# Altium schematic symbol library ALCT_MEZ_SPARTAN6_Library.SchLib: 214 symbols (part 3 of 7)
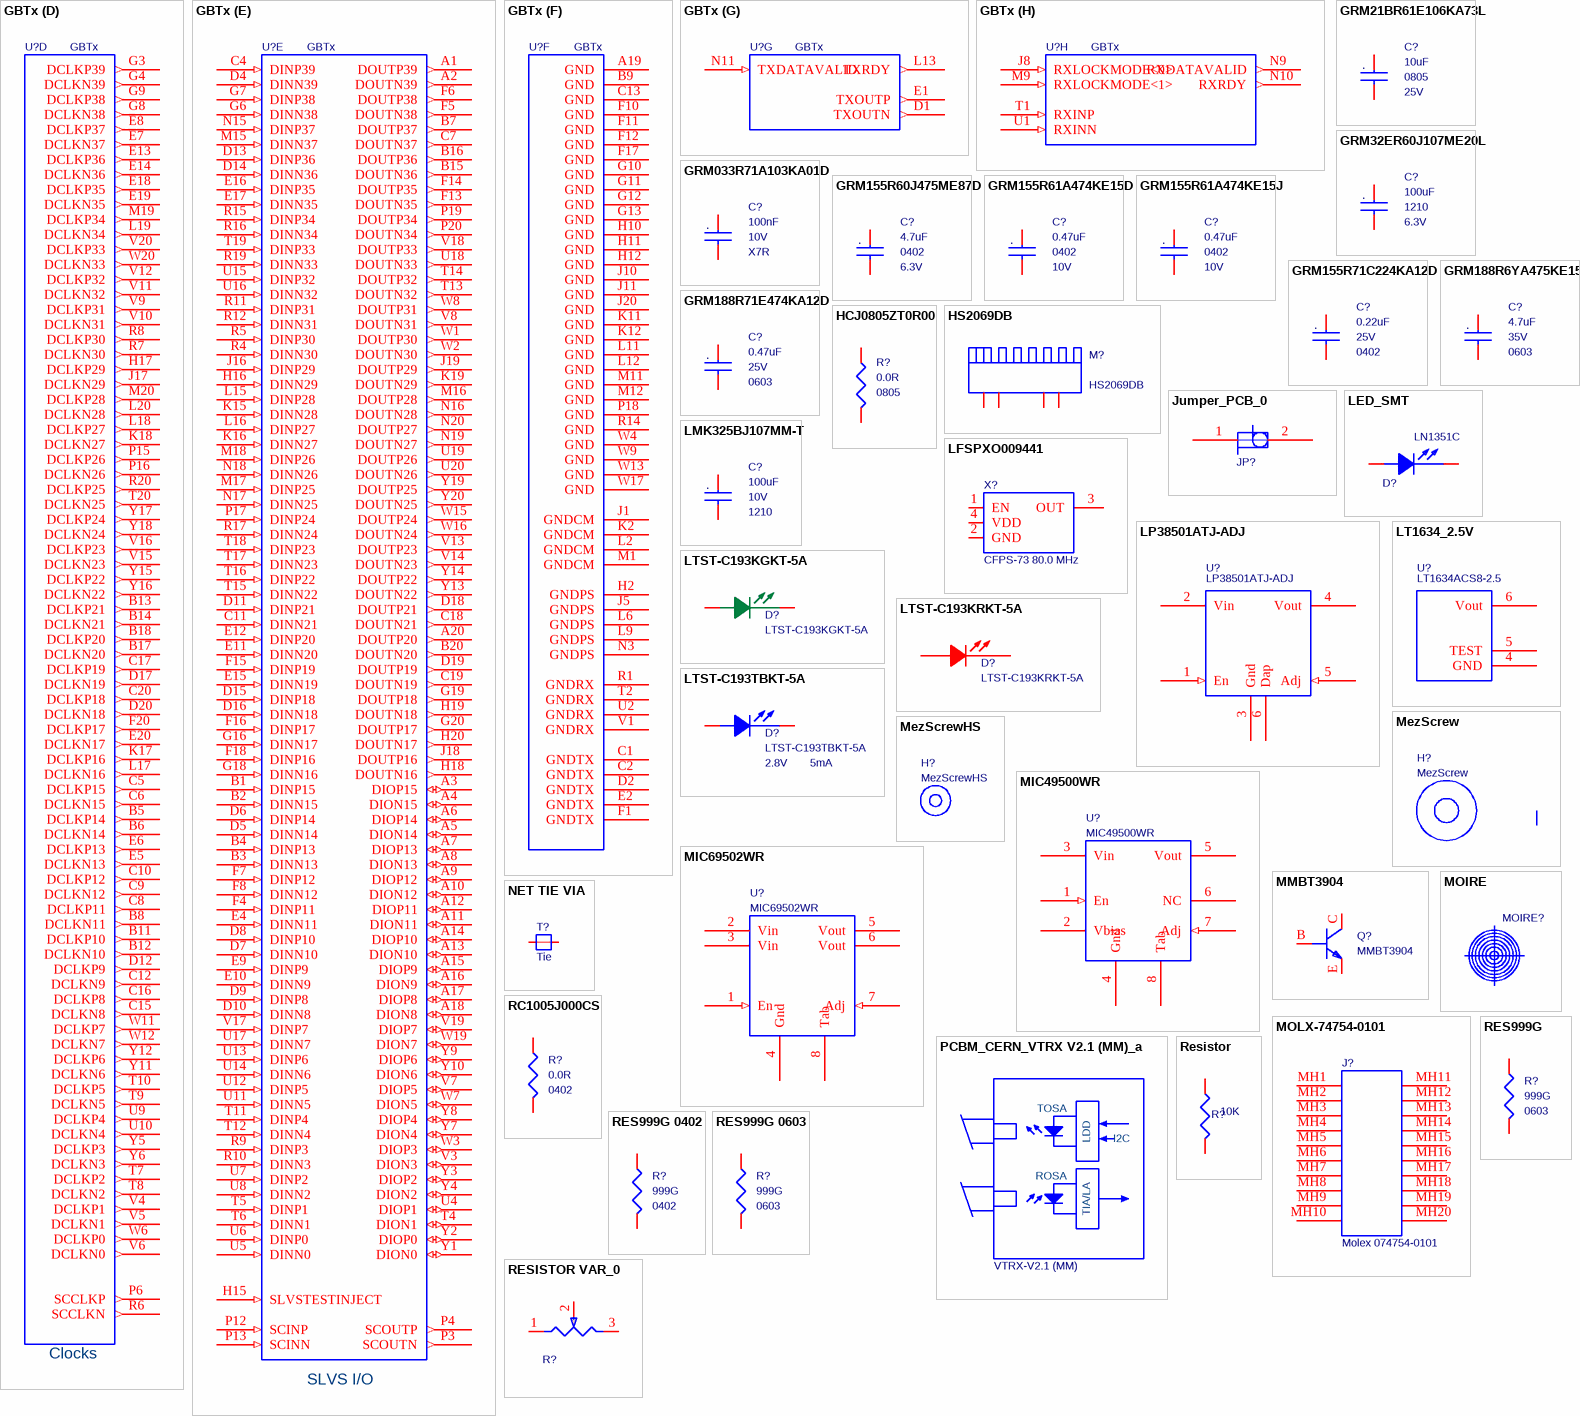
[diagram p22: symbols GBTx to RESISTOR VAR_0]

## GBTx
designator U?
footprint BGA400 GBT (BGA, 400-Leads, Body 17.00x17.00mmx2.97mm, Pitch 0.80mm)
part A pins: G5 SCL (in) "I2C slave clock", G17 UNUSED "n.a.", H5 SDA (io) "I2C slave data line", H8 LDSDA (io) "Laser Driver I2C data", H9 STATEOVERRIDE (in) "Disables the automatic power-up state machine", J7 LDRESET (out) "Laser driver reset", K7 CONFIGSELECT (in) "Selects I2C or SC-IC channel for ASIC configuration", K8 LDSCL (out) "Laser driver I2C clock", K10 TESTOUTPUT (out) "test output", L7 MODE<1> (in) "Transceiver mode select signal", L8 I2CADDRESS<0> (in) "I2C address", L10 MODE<2> (in) "Transceiver mode select signal", M8 TRESETB (in) "JTAG", M10 RESETB (in) "Chip reset", N5 MODE<0> (in) "Transceiver mode select signal", N6 I2CADDRESS<1> (in) "I2C address", N7 I2CADDRESS<2> (in) "I2C address", N8 TCK (in) "JTAG", P5 I2CADDRESS<3> (in) "I2C address", P7 TDI (in) "JTAG", P8 TMS (in) "JTAG", P9 TDO (out) "JTAG", P10 MODE<3> (in) "Transceiver mode select signal", P11 EFUSEPROGRAMPULSE (in) "E-Fuse write pulse", P14 EFUSEPOWER (power) "E-Fuse power: 3.3V during programing, 1.5V otherwise"
part B pins: G1 CLOCKDES0P (out) "Output clocks with programmable phase and frequency", H1 CLOCKDES0N (out) "Output clocks with programmable phase and frequency", H4 CLOCKDES1P (out) "Output clocks with programmable phase and frequency", H6 TESTCLOCKOUT (out) "test clock output", H7 TESTCLOCKIN1 (in) "test clock inputs", J2 XTALP (in) "Optional quartz crystal connection (see text)", J4 CLOCKDES1N (out) "Output clocks with programmable phase and frequency", J9 REFCLKSELECT (in) "Selects the internal xPLL or REFCLKN/REFCLKP", J15 TESTCLOCKIN2 (in) "test clock inputs", K1 REFCLKN (in) "Reference clock differential", K4 CLOCKDES2P (out) "Output clocks with programmable phase and frequency", K5 CLOCKDES2N (out) "Output clocks with programmable phase and frequency", L1 REFCLKP (in) "Input impedance: 100 Ohm differential", L4 CLOCKDES3P (out) "Output clocks with programmable phase and frequency", L5 CLOCKDES3N (out) "Output clocks with programmable phase and frequency", M2 XTALN (in) "Optional quartz crystal connection (see text)", M4 CLOCKDES4P (out) "Output clocks with programmable phase and frequency", M5 CLOCKDES4N (out) "Output clocks with programmable phase and frequency", M6 CLOCKDES6P (out) "Output clocks with programmable phase and frequency", M7 CLOCKDES6N (out) "Output clocks with programmable phase and frequency", N1 CLOCKDES5P (out) "Output clocks with programmable phase and frequency", N2 CLOCKDES5N (out) "Output clocks with programmable phase and frequency", P1 CLOCKDES7P (out) "Output clocks with programmable phase and frequency", P2 CLOCKDES7N (out) "Output clocks with programmable phase and frequency"
part C pins: B10 VDDIO (power) "Digital I/O power: 1.5 V", B19 VDDIO (power) "Digital I/O power: 1.5 V", C3 VDDTX (power) "Transmitter power: 1.5 V", C14 VDDIO (power) "Digital I/O power: 1.5 V", D3 VDDTX (power) "Transmitter power: 1.5 V", E3 VDDTX (power) "Transmitter power: 1.5 V", F2 VDDTX (power) "Transmitter power: 1.5 V", F3 VDDTX (power) "Transmitter power: 1.5 V", F9 VDDIO (power) "Digital I/O power: 1.5 V", F19 VDDIO (power) "Digital I/O power: 1.5 V", G2 VDDPS (power) "Phase-Shifter power: 1.5 V", G14 VDD (power) "Digital power: 1.5 V", G15 VDD (power) "Digital power: 1.5 V", H3 VDDPS (power) "Phase-Shifter power: 1.5 V", H13 VDD (power) "Digital power: 1.5 V", H14 VDD (power) "Digital power: 1.5 V", J3 VDDCM (power) "Clock-Manager power: 1.5 V", J6 VDDPS (power) "Phase-Shifter power: 1.5 V", J12 VDD (power) "Digital power: 1.5 V", J13 VDD (power) "Digital power: 1.5 V", J14 VDD (power) "Digital power: 1.5 V", K3 VDDCM (power) "Clock-Manager power: 1.5 V", K6 VDDPS (power) "Phase-Shifter power: 1.5 V", K9 VDDPS (power) "Phase-Shifter power: 1.5 V", K13 VDD (power) "Digital power: 1.5 V", K14 VDD (power) "Digital power: 1.5 V", K20 VDDIO (power) "Digital I/O power: 1.5 V", L3 VDDCM (power) "Clock-Manager power: 1.5 V", L14 VDD (power) "Digital power: 1.5 V", M3 VDDCM (power) "Clock-Manager power: 1.5 V", M13 VDDIO (power) "Digital I/O power: 1.5 V", M14 VDDIO (power) "Digital I/O power: 1.5 V", N4 VDDPS (power) "Phase-Shifter power: 1.5 V", N12 VDDIO (power) "Digital I/O power: 1.5 V", N13 VDDIO (power) "Digital I/O power: 1.5 V", N14 VDDIO (power) "Digital I/O power: 1.5 V", R2 VDDRX (power) "Receiver power: 1.5 V", R3 VDDRX (power) "Receiver power: 1.5 V", R13 VDDIO (power) "Digital I/O power: 1.5 V", R18 VDDIO (power) "Digital I/O power: 1.5 V", T3 VDDRX (power) "Receiver power: 1.5 V", U3 VDDRX (power) "Receiver power: 1.5 V", V2 VDDRX (power) "Receiver power: 1.5 V", W5 VDDIO (power) "Digital I/O power: 1.5 V", W10 VDDIO (power) "Digital I/O power: 1.5 V", W14 VDDIO (power) "Digital I/O power: 1.5 V", W18 VDDIO (power) "Digital I/O power: 1.5 V"
part D pins: B5 DCLKP14 (out) "E-Ports output clocks", B6 DCLKN14 (out) "E-Ports output clocks", B8 DCLKN11 (out) "E-Ports output clocks", B11 DCLKP10 (out) "E-Ports output clocks", B12 DCLKN10 (out) "E-Ports output clocks", B13 DCLKP21 (out) "E-Ports output clocks", B14 DCLKN21 (out) "E-Ports output clocks", B17 DCLKN20 (out) "E-Ports output clocks", B18 DCLKP20 (out) "E-Ports output clocks", C5 DCLKP15 (out) "E-Ports output clocks", C6 DCLKN15 (out) "E-Ports output clocks", C8 DCLKP11 (out) "E-Ports output clocks", C9 DCLKN12 (out) "E-Ports output clocks", C10 DCLKP12 (out) "E-Ports output clocks", C12 DCLKN9 (out) "E-Ports output clocks", C15 DCLKN8 (out) "E-Ports output clocks", C16 DCLKP8 (out) "E-Ports output clocks", C17 DCLKP19 (out) "E-Ports output clocks", C20 DCLKP18 (out) "E-Ports output clocks", D12 DCLKP9 (out) "E-Ports output clocks", D17 DCLKN19 (out) "E-Ports output clocks", D20 DCLKN18 (out) "E-Ports output clocks", E5 DCLKN13 (out) "E-Ports output clocks", E6 DCLKP13 (out) "E-Ports output clocks", E7 DCLKN37 (out) "E-Ports output clocks", E8 DCLKP37 (out) "E-Ports output clocks", E13 DCLKP36 (out) "E-Ports output clocks", E14 DCLKN36 (out) "E-Ports output clocks", E18 DCLKP35 (out) "E-Ports output clocks", E19 DCLKN35 (out) "E-Ports output clocks", E20 DCLKN17 (out) "E-Ports output clocks", F20 DCLKP17 (out) "E-Ports output clocks", G3 DCLKP39 (out) "E-Ports output clocks", G4 DCLKN39 (out) "E-Ports output clocks", G8 DCLKN38 (out) "E-Ports output clocks", G9 DCLKP38 (out) "E-Ports output clocks", H17 DCLKP29 (out) "E-Ports output clocks", J17 DCLKN29 (out) "E-Ports output clocks", K17 DCLKP16 (out) "E-Ports output clocks", K18 DCLKN27 (out) "E-Ports output clocks", L17 DCLKN16 (out) "E-Ports output clocks", L18 DCLKP27 (out) "E-Ports output clocks", L19 DCLKN34 (out) "E-Ports output clocks", L20 DCLKN28 (out) "E-Ports output clocks", M19 DCLKP34 (out) "E-Ports output clocks", M20 DCLKP28 (out) "E-Ports output clocks", P6 SCCLKP (out) "Slow control E-Port clock: 80 MHz", P15 DCLKP26 (out) "E-Ports output clocks", P16 DCLKN26 (out) "E-Ports output clocks", R6 SCCLKN (out) "Slow control E-Port clock: 80 MHz", R7 DCLKN30 (out) "E-Ports output clocks", R8 DCLKP30 (out) "E-Ports output clocks", R20 DCLKP25 (out) "E-Ports output clocks", T7 DCLKP2 (out) "E-Ports output clocks", T8 DCLKN2 (out) "E-Ports output clocks", T9 DCLKN5 (out) "E-Ports output clocks", T10 DCLKP5 (out) "E-Ports output clocks", T20 DCLKN25 (out) "E-Ports output clocks", U9 DCLKP4 (out) "E-Ports output clocks", U10 DCLKN4 (out) "E-Ports output clocks", V4 DCLKP1 (out) "E-Ports output clocks", V5 DCLKN1 (out) "E-Ports output clocks", V6 DCLKN0 (out) "E-Ports output clocks", V9 DCLKP31 (out) "E-Ports output clocks", V10 DCLKN31 (out) "E-Ports output clocks", V11 DCLKN32 (out) "E-Ports output clocks", V12 DCLKP32 (out) "E-Ports output clocks", V15 DCLKN23 (out) "E-Ports output clocks", V16 DCLKP23 (out) "E-Ports output clocks", V20 DCLKP33 (out) "E-Ports output clocks", W6 DCLKP0 (out) "E-Ports output clocks", W11 DCLKP7 (out) "E-Ports output clocks", W12 DCLKN7 (out) "E-Ports output clocks", W20 DCLKN33 (out) "E-Ports output clocks", Y5 DCLKP3 (out) "E-Ports output clocks", Y6 DCLKN3 (out) "E-Ports output clocks", Y11 DCLKN6 (out) "E-Ports output clocks", Y12 DCLKP6 (out) "E-Ports output clocks", Y15 DCLKP22 (out) "E-Ports output clocks", Y16 DCLKN22 (out) "E-Ports output clocks", Y17 DCLKP24 (out) "E-Ports output clocks", Y18 DCLKN24 (out) "E-Ports output clocks"
part E pins: A1 DOUTP39 (out) "E-Ports data outputs", A2 DOUTN39 (out) "E-Ports data outputs", A3 DIOP15 (io) "E-Port bidirectional data ports", A4 DION15 (io) "E-Port bidirectional data ports", A5 DION14 (io) "E-Port bidirectional data ports", A6 DIOP14 (io) "E-Port bidirectional data ports", A7 DIOP13 (io) "E-Port bidirectional data ports", A8 DION13 (io) "E-Port bidirectional data ports", A9 DIOP12 (io) "E-Port bidirectional data ports", A10 DION12 (io) "E-Port bidirectional data ports", A11 DION11 (io) "E-Port bidirectional data ports", A12 DIOP11 (io) "E-Port bidirectional data ports", A13 DION10 (io) "E-Port bidirectional data ports", A14 DIOP10 (io) "E-Port bidirectional data ports", A15 DIOP9 (io) "E-Port bidirectional data ports", A16 DION9 (io) "E-Port bidirectional data ports", A17 DIOP8 (io) "E-Port bidirectional data ports", A18 DION8 (io) "E-Port bidirectional data ports", A20 DOUTP20 (out) "E-Ports data outputs", B1 DINP15 (in) "E-Ports data inputs", B2 DINN15 (in) "E-Ports data inputs", B3 DINN13 (in) "E-Ports data inputs", B4 DINP13 (in) "E-Ports data inputs", B7 DOUTP37 (out) "E-Ports data outputs", B15 DOUTN36 (out) "E-Ports data outputs", B16 DOUTP36 (out) "E-Ports data outputs", B20 DOUTN20 (out) "E-Ports data outputs", C4 DINP39 (in) "E-Ports data inputs", C7 DOUTN37 (out) "E-Ports data outputs", C11 DINN21 (in) "E-Ports data inputs", C18 DOUTN21 (out) "E-Ports data outputs", C19 DOUTN19 (out) "E-Ports data outputs", D4 DINN39 (in) "E-Ports data inputs", D5 DINN14 (in) "E-Ports data inputs", D6 DINP14 (in) "E-Ports data inputs", D7 DINN10 (in) "E-Ports data inputs", D8 DINP10 (in) "E-Ports data inputs", D9 DINP8 (in) "E-Ports data inputs", D10 DINN8 (in) "E-Ports data inputs", D11 DINP21 (in) "E-Ports data inputs", D13 DINP36 (in) "E-Ports data inputs", D14 DINN36 (in) "E-Ports data inputs", D15 DINP18 (in) "E-Ports data inputs", D16 DINN18 (in) "E-Ports data inputs", D18 DOUTP21 (out) "E-Ports data outputs", D19 DOUTP19 (out) "E-Ports data outputs", E4 DINN11 (in) "E-Ports data inputs", E9 DINP9 (in) "E-Ports data inputs", E10 DINN9 (in) "E-Ports data inputs", E11 DINN20 (in) "E-Ports data inputs", E12 DINP20 (in) "E-Ports data inputs", E15 DINN19 (in) "E-Ports data inputs", E16 DINP35 (in) "E-Ports data inputs", E17 DINN35 (in) "E-Ports data inputs", F4 DINP11 (in) "E-Ports data inputs", F5 DOUTN38 (out) "E-Ports data outputs", F6 DOUTP38 (out) "E-Ports data outputs", F7 DINP12 (in) "E-Ports data inputs", F8 DINN12 (in) "E-Ports data inputs", F13 DOUTN35 (out) "E-Ports data outputs", F14 DOUTP35 (out) "E-Ports data outputs", F15 DINP19 (in) "E-Ports data inputs", F16 DINP17 (in) "E-Ports data inputs", F18 DINP16 (in) "E-Ports data inputs", G6 DINN38 (in) "E-Ports data inputs", G7 DINP38 (in) "E-Ports data inputs", G16 DINN17 (in) "E-Ports data inputs", G18 DINN16 (in) "E-Ports data inputs", G19 DOUTP18 (out) "E-Ports data outputs", G20 DOUTP17 (out) "E-Ports data outputs", H15 SLVSTESTINJECT (in) "Test input", H16 DINN29 (in) "E-Ports data inputs", H18 DOUTN16 (out) "E-Ports data outputs", H19 DOUTN18 (out) "E-Ports data outputs", H20 DOUTN17 (out) "E-Ports data outputs", J16 DINP29 (in) "E-Ports data inputs", J18 DOUTP16 (out) "E-Ports data outputs", J19 DOUTP29 (out) "E-Ports data outputs", K15 DINN28 (in) "E-Ports data inputs", K16 DINN27 (in) "E-Ports data inputs", K19 DOUTN29 (out) "E-Ports data outputs", L15 DINP28 (in) "E-Ports data inputs", L16 DINP27 (in) "E-Ports data inputs", M15 DINN37 (in) "E-Ports data inputs", M16 DOUTP28 (out) "E-Ports data outputs", M17 DINP25 (in) "E-Ports data inputs", M18 DINP26 (in) "E-Ports data inputs", N15 DINP37 (in) "E-Ports data inputs", N16 DOUTN28 (out) "E-Ports data outputs", N17 DINN25 (in) "E-Ports data inputs", N18 DINN26 (in) "E-Ports data inputs", N19 DOUTN27 (out) "E-Ports data outputs", N20 DOUTP27 (out) "E-Ports data outputs", P3 SCOUTN (out) "Slow control E-Port data output. Data rate 80 Mb/s", P4 SCOUTP (out) "Slow control E-Port data output. Data rate 80 Mb/s", P12 SCINP (in) "Programable input impedance: Hi-Z / 100 Ohm differential", P13 SCINN (in) "Slow control E-Port data input. Data rate 80 Mb/s", P17 DINP24 (in) "E-Ports data inputs", P19 DOUTP34 (out) "E-Ports data outputs", P20 DOUTN34 (out) "E-Ports data outputs", R4 DINN30 (in) "E-Ports data inputs", R5 DINP30 (in) "E-Ports data inputs", R9 DINP3 (in) "E-Ports data inputs", R10 DINN3 (in) "E-Ports data inputs", R11 DINP31 (in) "E-Ports data inputs", R12 DINN31 (in) "E-Ports data inputs", R15 DINP34 (in) "E-Ports data inputs", R16 DINN34 (in) "E-Ports data inputs", R17 DINN24 (in) "E-Ports data inputs", R19 DINN33 (in) "E-Ports data inputs", T4 DION1 (io) "E-Port bidirectional data ports", T5 DINP1 (in) "E-Ports data inputs", T6 DINN1 (in) "E-Ports data inputs", T11 DINP4 (in) "E-Ports data inputs", T12 DINN4 (in) "E-Ports data inputs", T13 DOUTN32 (out) "E-Ports data outputs", T14 DOUTP32 (out) "E-Ports data outputs", T15 DINN22 (in) "E-Ports data inputs", T16 DINP22 (in) "E-Ports data inputs", T17 DINN23 (in) "E-Ports data inputs", T18 DINP23 (in) "E-Ports data inputs", T19 DINP33 (in) "E-Ports data inputs", U4 DIOP1 (io) "E-Port bidirectional data ports", U5 DINN0 (in) "E-Ports data inputs", U6 DINP0 (in) "E-Ports data inputs", U7 DINP2 (in) "E-Ports data inputs", U8 DINN2 (in) "E-Ports data inputs", U11 DINN5 (in) "E-Ports data inputs", U12 DINP5 (in) "E-Ports data inputs", U13 DINP6 (in) "E-Ports data inputs", U14 DINN6 (in) "E-Ports data inputs", U15 DINP32 (in) "E-Ports data inputs", U16 DINN32 (in) "E-Ports data inputs", U17 DINN7 (in) "E-Ports data inputs", U18 DOUTN33 (out) "E-Ports data outputs", U19 DOUTP26 (out) "E-Ports data outputs", U20 DOUTN26 (out) "E-Ports data outputs", V3 DION3 (io) "E-Port bidirectional data ports", V7 DIOP5 (io) "E-Port bidirectional data ports", V8 DOUTN31 (out) "E-Ports data outputs", V13 DOUTP23 (out) "E-Ports data outputs", V14 DOUTN23 (out) "E-Ports data outputs", V17 DINP7 (in) "E-Ports data inputs", V18 DOUTP33 (out) "E-Ports data outputs", V19 DIOP7 (io) "E-Port bidirectional data ports", W1 DOUTP30 (out) "E-Ports data outputs", W2 DOUTN30 (out) "E-Ports data outputs", W3 DIOP3 (io) "E-Port bidirectional data ports", W7 DION5 (io) "E-Port bidirectional data ports", W8 DOUTP31 (out) "E-Ports data outputs", W15 DOUTP24 (out) "E-Ports data outputs", W16 DOUTN24 (out) "E-Ports data outputs", W19 DION7 (io) "E-Port bidirectional data ports", Y1 DION0 (io) "E-Port bidirectional data ports", Y2 DIOP0 (io) "E-Port bidirectional data ports", Y3 DIOP2 (io) "E-Port bidirectional data ports", Y4 DION2 (io) "E-Port bidirectional data ports", Y7 DION4 (io) "E-Port bidirectional data ports", Y8 DIOP4 (io) "E-Port bidirectional data ports", Y9 DIOP6 (io) "E-Port bidirectional data ports", Y10 DION6 (io) "E-Port bidirectional data ports", Y13 DOUTN22 (out) "E-Ports data outputs", Y14 DOUTP22 (out) "E-Ports data outputs", Y19 DOUTP25 (out) "E-Ports data outputs", Y20 DOUTN25 (out) "E-Ports data outputs"
part F pins: A19 GND (power) "Digital and digital I/O ground", B9 GND (power) "Digital and digital I/O ground", C1 GNDTX (power) "Transmitter ground", C2 GNDTX (power) "Transmitter ground", C13 GND (power) "Digital and digital I/O ground", D2 GNDTX (power) "Transmitter ground", E2 GNDTX (power) "Transmitter ground", F1 GNDTX (power) "Transmitter ground", F10 GND (power) "Digital and digital I/O ground", F11 GND (power) "Digital and digital I/O ground", F12 GND (power) "Digital and digital I/O ground", F17 GND (power) "Digital and digital I/O ground", G10 GND (power) "Digital and digital I/O ground", G11 GND (power) "Digital and digital I/O ground", G12 GND (power) "Digital and digital I/O ground", G13 GND (power) "Digital and digital I/O ground", H2 GNDPS (power) "Phase-shifter ground", H10 GND (power) "Digital and digital I/O ground", H11 GND (power) "Digital and digital I/O ground", H12 GND (power) "Digital and digital I/O ground", J1 GNDCM (power) "Clock manager ground", J5 GNDPS (power) "Phase-shifter ground", J10 GND (power) "Digital and digital I/O ground", J11 GND (power) "Digital and digital I/O ground", J20 GND (power) "Digital and digital I/O ground", K2 GNDCM (power) "Clock manager ground", K11 GND (power) "Digital and digital I/O ground", K12 GND (power) "Digital and digital I/O ground", L2 GNDCM (power) "Clock manager ground", L6 GNDPS (power) "Phase-shifter ground", L9 GNDPS (power) "Phase-shifter ground", L11 GND (power) "Digital and digital I/O ground", L12 GND (power) "Digital and digital I/O ground", M1 GNDCM (power) "Clock manager ground", M11 GND (power) "Digital and digital I/O ground", M12 GND (power) "Digital and digital I/O ground", N3 GNDPS (power) "Phase-shifter ground", P18 GND (power) "Digital and digital I/O ground", R1 GNDRX (power) "Receiver ground", R14 GND (power) "Digital and digital I/O ground", T2 GNDRX (power) "Receiver ground", U2 GNDRX (power) "Receiver ground", V1 GNDRX (power) "Receiver ground", W4 GND (power) "Digital and digital I/O ground", W9 GND (power) "Digital and digital I/O ground", W13 GND (power) "Digital and digital I/O ground", W17 GND (power) "Digital and digital I/O ground"
part G pins: D1 TXOUTN (out) "Transmitter differential serial output. Data rate 4.8Gb/s", E1 TXOUTP (out) "External termination impedance : 100 Ohm differential", L13 TXRDY (out) "Transmitter ready flag", N11 TXDATAVALID (in) "Transmitter data valid qualifier"
part H pins: J8 RXLOCKMODE<0> (in) "Rx lock mode select signal", M9 RXLOCKMODE<1> (in) "Rx lock mode select signal", N9 RXDATAVALID (out) "Receiver data valid flag", N10 RXRDY (out) "Receiver ready flag", T1 RXINP (in) "Input impedance: 100 Ohm differential", U1 RXINN (in) "Receiver differential serial input. Data rate 4.8Gb/s"
part A text: GBTx Control
part B text: GBTx Clock Control
part C text: Power
part D text: Clocks
part E text: SLVS I/O

## GRM21BR61E106KA73L
designator C?, comment 10uF  Voltage - Rated: 25V  package: 0805
CAP CER 10UF 25V X5R 0805; Manufacturer: Murata Electronics North America; Manufacturer Part Number: GRM21BR61E106KA73L; Capacitance: 10µF; Tolerance: ±10%; Supplier 1: Digi-Key; RoHS: RoHS Compliant; Category: Capacitors; Stock 1: 607428; Pricing 1: 1=0.19, 10=0.13, 50=0.0748, 100=0.0618, 250=0.052, 500=0.04356, 1000=0.03575 (USD); Packaging: Cut Tape (CT); Part Status: Active; Temperature Coefficient: X5R; Operating Temperature: -55°C ~ 85°C; Features: -; Ratings: -; Applications: General Purpose; Mounting Type: Surface Mount, MLCC; Package / Case: 0805 (2012 Metric); Size / Dimension: 0.079" L x 0.049" W (2.00mm x 1.25mm); Height - Seated (Max): -; Thickness (Max): 0.053" (1.35mm); Lead Spacing: -; Lead Style: -; ComponentLink1URL: http://www.murata.com/~/media/webrenewal/support/library/catalog/products/capacitor/mlcc/c02e.pdf; ComponentLink1Description: http://www.murata.com/~/media/webrenewal/support/library/catalog/products/capacitor/mlcc/c02e.pdf; Supplier 2: Digi-Key; Supplier Part Number 1: 490-5523-1-ND; Supplier Part Number 2: 490-5523-6-ND
footprint MC_S6/SM/C_0805_IPC
pins: 1, 2
text: .

## GRM32ER60J107ME20L
designator C?, comment 100uF  Voltage - Rated: 6.3V  package: 1210
CAP CER 100UF 6.3V X5R 1210; Manufacturer: Murata Electronics North America; Manufacturer Part Number: GRM32ER60J107ME20L; Capacitance: 100µF; Tolerance: ±20%; Supplier 1: Digi-Key; RoHS: RoHS Compliant; Category: Capacitors; Stock 1: 54638; Pricing 1: 1=0.74, 10=0.704, 50=0.42, 100=0.3413, 250=0.28352, 500=0.25726 (USD); Packaging: Cut Tape (CT); Part Status: Active; Temperature Coefficient: X5R; Operating Temperature: -55°C ~ 85°C; Features: -; Ratings: -; Applications: General Purpose; Mounting Type: Surface Mount, MLCC; Package / Case: 1210 (3225 Metric); Size / Dimension: 0.126" L x 0.098" W (3.20mm x 2.50mm); Height - Seated (Max): -; Thickness (Max): 0.106" (2.70mm); Lead Spacing: -; Lead Style: -; ComponentLink1URL: http://www.murata.com/~/media/webrenewal/support/library/catalog/products/capacitor/mlcc/c02e.pdf; ComponentLink1Description: http://www.murata.com/~/media/webrenewal/support/library/catalog/products/capacitor/mlcc/c02e.pdf; Supplier 2: Digi-Key; Stock 2: 54638; Pricing 2: 1=0.74, 10=0.704, 50=0.42, 100=0.3413, 250=0.28352, 500=0.25726 (USD); Supplier Part Number 1: 490-3390-1-ND; Supplier Part Number 2: 490-3390-6-ND
footprint MC_S6/SM/C_1210_IPC
pins: 1, 2
text: .

## GRM033R71A103KA01D
designator C?, comment 100nF  Voltage - Rated: 10V  Temperature Coefficient: X7R
CAP CER 100nF 10V 0201; Manufacturer: Murata Electronics North America; Manufacturer Part Number: GRM033R71A103KA01D; Capacitance: 10000pF; Tolerance: ±10%; Supplier 1: Digi-Key; RoHS: RoHS Compliant; Category: Capacitors; Stock 1: 7283140; Pricing 1: 1=0.1, 10=0.019, 50=0.0104, 100=0.0088, 250=0.0072, 500=0.00616, 1000=0.0048, 5000=0.004 (USD); Packaging: Cut Tape (CT); Part Status: Active; Operating Temperature: -55°C ~ 125°C; Features: -; Ratings: -; Applications: General Purpose; Mounting Type: Surface Mount, MLCC; Package / Case: 0201 (0603 Metric); Size / Dimension: 0.024" L x 0.012" W (0.60mm x 0.30mm); Height - Seated (Max): -; Thickness (Max): 0.013" (0.33mm); Lead Spacing: -; Lead Style: -; ComponentLink1URL: http://www.murata.com/~/media/webrenewal/support/library/catalog/products/capacitor/mlcc/c02e.ashx; ComponentLink1Description: http://www.murata.com/~/media/webrenewal/support/library/catalog/products/capacitor/mlcc/c02e.ashx; Supplier 2: Digi-Key; Stock 2: 7283140; Pricing 2: 1=0.1, 10=0.019, 50=0.0104, 100=0.0088, 250=0.0072, 500=0.00616, 1000=0.0048, 5000=0.004 (USD); Supplier Part Number 1: 490-3194-1-ND; Supplier Part Number 2: 490-3194-6-ND
footprint MC_S6/SM/C_0201_IPC
pins: 1, 2
text: .

## GRM155R60J475ME87D
designator C?, comment 4.7uF  Voltage - Rated: 6.3V  package: 0402
CAP CER 4.7UF 6.3V X5R 0402; Manufacturer: Murata Electronics North America; Manufacturer Part Number: GRM155R60J475ME87D; Capacitance: 4.7µF; Tolerance: ±20%; Supplier 1: Digi-Key; RoHS: RoHS Compliant; Category: Capacitors; Stock 1: 226873; Pricing 1: 1=0.14, 10=0.095, 50=0.0546, 100=0.0451, 250=0.038, 500=0.03182, 1000=0.02613, 5000=0.02209 (USD); Packaging: Cut Tape (CT); Part Status: Active; Temperature Coefficient: X5R; Operating Temperature: -55°C ~ 85°C; Features: Derating Recommended; Ratings: -; Applications: General Purpose; Mounting Type: Surface Mount, MLCC; Package / Case: 0402 (1005 Metric); Size / Dimension: 0.039" L x 0.020" W (1.00mm x 0.50mm); Height - Seated (Max): -; Thickness (Max): 0.022" (0.55mm); Lead Spacing: -; Lead Style: -; ComponentLink1URL: http://www.murata.com/~/media/webrenewal/support/library/catalog/products/capacitor/mlcc/c02e.pdf; ComponentLink1Description: http://www.murata.com/~/media/webrenewal/support/library/catalog/products/capacitor/mlcc/c02e.pdf; Supplier 2: Digi-Key; Stock 2: 226873; Pricing 2: 1=0.14, 10=0.095, 50=0.0546, 100=0.0451, 250=0.038, 500=0.03182, 1000=0.02613, 5000=0.02209 (USD); Supplier Part Number 1: 490-5408-1-ND; Supplier Part Number 2: 490-5408-6-ND
footprint MC_S6/SM/C_0402_IPC
pins: 1, 2
text: .

## GRM155R61A474KE15D
designator C?, comment 0.47uF  Voltage - Rated: 10V  package: 0402
CAP CER 0.47UF 10V X5R 0402; Manufacturer: Murata Electronics North America; Manufacturer Part Number: GRM155R61A474KE15D; Capacitance: 0.47µF; Tolerance: ±10%; Supplier 1: Digi-Key; RoHS: RoHS Compliant; Category: Capacitors; Stock 1: 506743; Pricing 1: 1=0.1, 10=0.064, 50=0.0344, 100=0.0292, 250=0.02384, 500=0.0204, 1000=0.0159, 5000=0.01325 (USD); Packaging: Cut Tape (CT); Part Status: Active; Operating Temperature: -55°C ~ 85°C; Features: -; Ratings: -; Applications: General Purpose; Mounting Type: Surface Mount, MLCC; Package / Case: 0402 (1005 Metric); Size / Dimension: 0.039" L x 0.020" W (1.00mm x 0.50mm); Height - Seated (Max): -; Thickness (Max): 0.022" (0.55mm); Lead Spacing: -; Lead Style: -; ComponentLink1URL: http://www.murata.com/~/media/webrenewal/support/library/catalog/products/capacitor/mlcc/c02e.pdf; ComponentLink1Description: http://www.murata.com/~/media/webrenewal/support/library/catalog/products/capacitor/mlcc/c02e.pdf; Supplier 2: Digi-Key; Stock 2: 506743; Pricing 2: 1=0.1, 10=0.064, 50=0.0344, 100=0.0292, 250=0.02384, 500=0.0204, 1000=0.0159, 5000=0.01325 (USD); Supplier Part Number 1: 490-3264-1-ND; Supplier Part Number 2: 490-3264-6-ND; Temperature Coefficient: X5R
footprint MC_S6/SM/C_0402_IPC
pins: 1, 2
text: .

## GRM155R61A474KE15J
designator C?, comment 0.47uF  Voltage - Rated: 10V  package: 0402
CAP CER 0.47UF 10V X5R 0402; Manufacturer: Murata Electronics North America; Manufacturer Part Number: GRM155R61A474KE15J; Capacitance: 0.47µF; Tolerance: ±10%; Supplier 1: Digi-Key; RoHS: RoHS Compliant; Category: Capacitors; Stock 1: 35266; Pricing 1: 1=0.1, 10=0.074, 100=0.0329, 500=0.02348, 1000=0.01845, 2500=0.01678, 5000=0.01543 (USD); Packaging: Cut Tape (CT); Part Status: Active; Temperature Coefficient: X5R; Operating Temperature: -55°C ~ 85°C; Features: -; Ratings: -; Applications: General Purpose; Mounting Type: Surface Mount, MLCC; Package / Case: 0402 (1005 Metric); Size / Dimension: 0.039" L x 0.020" W (1.00mm x 0.50mm); Height - Seated (Max): -; Thickness (Max): 0.022" (0.55mm); Lead Spacing: -; ComponentLink1URL: http://www.murata.com/~/media/webrenewal/support/library/catalog/products/capacitor/mlcc/c02e.ashx; ComponentLink1Description: http://www.murata.com/~/media/webrenewal/support/library/catalog/products/capacitor/mlcc/c02e.ashx; Supplier 2: Digi-Key; Stock 2: 35286; Pricing 2: 1=0.1, 10=0.074, 100=0.0329, 500=0.02348, 1000=0.01845, 2500=0.01678, 5000=0.01543 (USD); Supplier Part Number 1: 490-6305-1-ND; Supplier Part Number 2: 490-6305-6-ND
footprint MC_S6/SM/C_0402_IPC
pins: 1, 2
text: .

## GRM155R71C224KA12D
designator C?, comment 0.22uF  Voltage - Rated: 25V  package: 0402
CAP CER 0.22UF 15V X7R 0402; Manufacturer: Murata Electronics North America; Manufacturer Part Number: GRM155R71C224KA12D; Capacitance: 0.22µF; Tolerance: ±10%; Applications: General Purpose; Supplier 1: Digi-Key; RoHS: RoHS Compliant; Category: Capacitors; Stock 1: 1853641; Pricing 1: 1=0.1, 10=0.063, 100=0.0279, 500=0.0199, 1000=0.01564, 2500=0.01422, 5000=0.01308 (USD); Packaging: Cut Tape (CT); Part Status: Active; Temperature Coefficient: X7R; Operating Temperature: -55°C ~ 125°C; Features: -; Ratings: -; Mounting Type: Surface Mount, MLCC; Package / Case: 0402 (1005 Metric); Size / Dimension: 0.039" L x 0.020" W (1.00mm x 0.50mm); Height - Seated (Max): -; Thickness (Max): 0.022" (0.55mm); Lead Spacing: -; Lead Style: -; ComponentLink1URL: http://www.murata.com/~/media/webrenewal/support/library/catalog/products/capacitor/mlcc/c02e.ashx; ComponentLink1Description: http://www.murata.com/~/media/webrenewal/support/library/catalog/products/capacitor/mlcc/c02e.ashx; Supplier 2: Digi-Key; Stock 2: 1854141; Pricing 2: 1=0.1, 10=0.063, 100=0.0279, 500=0.0199, 1000=0.01564, 2500=0.01422, 5000=0.01308 (USD); Supplier Part Number 1: 490-5418-1-ND; Supplier Part Number 2: 490-5418-6-ND
footprint MC_S6/SM/C_0402_IPC
pins: 1, 2
text: .

## GRM188R6YA475KE15D
designator C?, comment 4.7uF  Voltage - Rated: 35V  package: 0603
CAP CER 4.7UF 35V X5R 0603; Manufacturer: Murata; Manufacturer Part Number: GRM188R6YA475KE15D; Product Training Modules: High-Cap Multilayer Ceramic Capacitors; Featured Product: GA3 Safety Recognized Capacitors; EDA / CAD Models: Download from Accelerated Designs; Capacitance: 4.7µF; Tolerance: ±10%; Online Catalog: GRM Series; Other Names: 490-7205-2; Supplier 1: Digikey; Stock 1: 180441; Pricing 1: 1=0.32, 10=0.264, 50=0.1486, 100=0.132, 250=0.099, 500=0.0875, 1000=0.0776 (USD); Standard Package: 4,000; Category: Capacitors; Family: Ceramic Capacitors; Series: GRM; Packaging: Tape & Reel (TR); Temperature Coefficient: X5R; Mounting Type: Surface Mount, MLCC; Operating Temperature: -55°C ~ 85°C; Applications: General Purpose; Package / Case: 0603 (1608 Metric); Size / Dimension: 0.063" L x 0.031" W (1.60mm x 0.80mm); Thickness (Max): 0.031" (0.80mm); ComponentLink1URL: https://datasheet.ciiva.com/46444/1769893-46444984.pdf; ComponentLink1Description: https://datasheet.ciiva.com/46444/1769893-46444984.pdf; ComponentLink2URL: https://datasheet.ciiva.com/46444/1769893-46444985.pdf; ComponentLink2Description: https://datasheet.ciiva.com/46444/1769893-46444985.pdf; ComponentLink3URL: https://datasheet.ciiva.com/14906/partnumbering-e-01-14906426.pdf; ComponentLink3Description: https://datasheet.ciiva.com/14906/partnumbering-e-01-14906426.pdf; ComponentLink4URL: https://datasheet.ciiva.com/14906/partnumbering-e-01-14906427.pdf; ComponentLink4Description: https://datasheet.ciiva.com/14906/partnumbering-e-01-14906427.pdf; ComponentLink5URL: https://datasheet.ciiva.com/14906/partnumbering-e-01-14906428.pdf; ComponentLink5Description: https://datasheet.ciiva.com/14906/partnumbering-e-01-14906428.pdf; Supplier 2: Digikey; Stock 2: 180441; Pricing 2: 1=0.32, 10=0.264, 50=0.1486, 100=0.132, 250=0.099, 500=0.0875, 1000=0.0776 (USD); Supplier Part Number 1: 490-7205-1-ND; Supplier Part Number 2: 490-7205-6-ND
footprint MC_S6/SM/C_0603_IPC
pins: 1, 2
text: .

## GRM188R71E474KA12D
designator C?, comment 0.47uF  Voltage - Rated: 25V  package: 0603
CAP CER 0.47UF 25V X7R 0603; Manufacturer: Murata; Manufacturer Part Number: GRM188R71E474KA12D; Product Training Modules: High-Cap Multilayer Ceramic Capacitors; Featured Product: GA3 Safety Recognized Caps and Hi-Cap MLCC; Capacitance: 0.47µF; Tolerance: ±10%; Online Catalog: GRM Series; Other Names: 490-3291-2; Supplier 1: Digikey; Stock 1: 616139; Pricing 1: 1=0.17, 10=0.114, 50=0.0656, 100=0.0542, 250=0.0456, 500=0.0382, 1000=0.0314 (USD); Standard Package: 4,000; Category: Capacitors; Family: Ceramic Capacitors; Series: GRM; Packaging: Tape & Reel (TR); Temperature Coefficient: X7R; Mounting Type: Surface Mount, MLCC; Operating Temperature: -55°C ~ 125°C; Applications: General Purpose; Ratings: -; Package / Case: 0603 (1608 Metric); Size / Dimension: 0.063" L x 0.031" W (1.60mm x 0.80mm); Height - Seated (Max): -; Thickness (Max): 0.035" (0.90mm); Lead Spacing: -; Features: -; Lead Style: -; ComponentLink1URL: https://datasheet.ciiva.com/16293/grm188r71e474ka12d-16293088.pdf; ComponentLink1Description: https://datasheet.ciiva.com/16293/grm188r71e474ka12d-16293088.pdf; ComponentLink2URL: https://datasheet.ciiva.com/7937/1747458-7937650.pdf; ComponentLink2Description: https://datasheet.ciiva.com/7937/1747458-7937650.pdf; ComponentLink3URL: https://datasheet.ciiva.com/134/grm188r71e474ka12-01-134308.pdf; ComponentLink3Description: https://datasheet.ciiva.com/134/grm188r71e474ka12-01-134308.pdf; ComponentLink4URL: https://datasheet.ciiva.com/134/grm188r71e474ka12-01-134309.pdf; ComponentLink4Description: https://datasheet.ciiva.com/134/grm188r71e474ka12-01-134309.pdf; ComponentLink5URL: https://datasheet.ciiva.com/134/grm188r71e474ka12-01-134310.pdf; ComponentLink5Description: https://datasheet.ciiva.com/134/grm188r71e474ka12-01-134310.pdf; ComponentLink6URL: https://datasheet.ciiva.com/22703/1747458-22703340.pdf; ComponentLink6Description: https://datasheet.ciiva.com/22703/1747458-22703340.pdf; ComponentLink7URL: https://datasheet.ciiva.com/29199/454518-da-01-en-vs-kondensator-0603-29199596.pdf; ComponentLink7Description: https://datasheet.ciiva.com/29199/454518-da-01-en-vs-kondensator-0603-29199596.pdf; ComponentLink8URL: https://datasheet.ciiva.com/34302/1857559-34302862.pdf; ComponentLink8Description: https://datasheet.ciiva.com/34302/1857559-34302862.pdf; Supplier 2: Digikey; Stock 2: 616139; Pricing 2: 1=0.17, 10=0.114, 50=0.0656, 100=0.0542, 250=0.0456, 500=0.0382, 1000=0.0314 (USD); Supplier Part Number 1: 490-3291-1-ND; Supplier Part Number 2: 490-3291-6-ND
footprint MC_S6/SM/C_0603_IPC
pins: 1, 2
text: .

## HCJ0805ZT0R00
designator R?, comment 0.0R  Supplier Device Package: 0805
RES SMD 0.0 OHM JUMPER 0805 HIGH CURRENT; Manufacturer: Stackpole Electronics Inc.; Manufacturer Part Number: HCJ0805ZT0R00; Resistance (Ohms): 0.0; Power (Watts): 0.5W, 1/2W; Supplier 1: Digi-Key; RoHS: RoHS Compliant; Category: Resistors; Stock 1: 10033; Pricing 1: 1=0.59, 10=0.455, 25=0.3464, 50=0.2574, 100=0.1914, 250=0.16172, 500=0.1386, 1000=0.1056 (USD); Packaging: Cut Tape (CT); Part Status: Active; Tolerance: Jumper; Composition: -; Features: Automotive AEC-Q200; Temperature Coefficient: -; Operating Temperature: -55°C ~ 155°C; Package / Case: 0805 (2012 Metric); Size / Dimension: 0.079" L x 0.049" W (2.00mm x 1.25mm); Height - Seated (Max): 0.031" (0.80mm); Number of Terminations: 2; Failure Rate: -; ComponentLink1URL: http://www.seielect.com/catalog/SEI-HCJ.pdf; ComponentLink1Description: http://www.seielect.com/catalog/SEI-HCJ.pdf; Supplier 2: Digi-Key; Stock 2: 10033; Pricing 2: 1=0.59, 10=0.455, 25=0.3464, 50=0.2574, 100=0.1914, 250=0.16172, 500=0.1386, 1000=0.1056 (USD); Supplier Part Number 1: HCJ0805ZT0R00CT-ND; Supplier Part Number 2: HCJ0805ZT0R00DKR-ND
footprint MC_S6/SM/R_0805_IPC
pins: 1, 2

## HS2069DB
designator M?  (mechanical)
Heatsink 61 x 58 x 12mm
footprint HS2069DB (Half Brick DC/DC Heatsink, 61 X 58 X 12mm, Roundpin)
pins: 1, 2, 3, 4

## Jumper_PCB_0
designator JP?
footprint Jumper_PCB
pins: 1, 2

## LED_SMT
designator D?, comment LN1351C
Color_Name: GRN; silk: Dxx; mfgr_foot: J-Lead-S; mfgr: Panasonic; COMPROT: 0; COMPSIDE: TOP; mfgr_id: LN1351C; COMPGROUP: 0
footprint TMB5/LED_3220C
pins: A ANODE, K CATHODE

## LFSPXO009441
designator X?, comment CFPS-73 80.0 MHz
XTAL, 80MHz, CMOS; Manufacturer: IQD; Manufacturer Part Number: LFSPXO009441REEL; Load Capacitance: 30pF; Frequency Stability: 50ppm; Supplier 1: Digi-Key; Stock 1: 827; Pricing 1: 1=2.72, 10=2.657, 50=2.53, 100=2.2138, 500=2.1505 (USD); Case/Package: CSMD; Number of Pins: 4; Min Operating Temperature: 0°C; Max Operating Temperature: 70°C; Frequency: 80MHz; Packaging: Tape and Reel; Length: 7.2mm; Depth: 5.2mm; ComponentLink1URL: http://components.arrow.com/part/dataview/0323_02291251; ComponentLink1Description: http://components.arrow.com/part/dataview/0323_02291251; Supplier Part Number 1: 1923-1130-6-ND
footprint MC_S6/SM/XTAL-7x5.08
pins: 1 EN, 2 GND, 3 OUT, 4 VDD

## LMK325BJ107MM-T
designator C?, comment 100uF  Voltage - Rated: 10V  package: 1210
CAP CER 100UF 10V X5R 1210; Manufacturer: Taiyo Yuden; Manufacturer Part Number: LMK325BJ107MM-T; Capacitance: 100µF; Tolerance: ±20%; Supplier 1: Digi-Key; RoHS: RoHS Compliant; Category: Capacitors; Stock 1: 345948; Pricing 1: 1=1.15, 10=0.909, 25=0.8332, 50=0.7878, 100=0.6818, 250=0.60608 (USD); Packaging: Cut Tape (CT); Part Status: Active; Temperature Coefficient: X5R; Operating Temperature: -55°C ~ 85°C; Features: -; Ratings: -; Applications: General Purpose; Mounting Type: Surface Mount, MLCC; Package / Case: 1210 (3225 Metric); Size / Dimension: 0.126" L x 0.098" W (3.20mm x 2.50mm); Height - Seated (Max): -; Thickness (Max): 0.106" (2.70mm); Lead Spacing: -; Lead Style: -; ComponentLink1URL: http://www.yuden.co.jp/productdata/catalog/en/mlcc_all_e.pdf; ComponentLink1Description: http://www.yuden.co.jp/productdata/catalog/en/mlcc_all_e.pdf; Supplier 2: Digi-Key; Stock 2: 345948; Pricing 2: 1=1.16, 10=0.914, 25=0.8376, 50=0.792, 100=0.6855, 250=0.60932 (USD); Supplier Part Number 1: 587-1965-1-ND; Supplier Part Number 2: 587-1965-6-ND
footprint MC_S6/SM/C_1210_IPC
pins: 1, 2
text: .

## LP38501ATJ-ADJ
designator U?
IC REG LDO ADJ 3A 5PFM; Manufacturer: Texas Instruments; Manufacturer Part Number: LP38501ATJ-ADJ/NOPB; COMPSIDE: TOP; COMPGROUP: 0; mfgr: National; mfgr_foot: TO-263-THIN; Regulator Topology: Positive Adjustable; Voltage - Output: 0.6 V ~ 5 V; Voltage - Dropout (Typical): 0.42V @ 3A; Voltage - Input: 2.7 V ~ 5.5 V; COMPROT: 0; mfgr_id: LP38501ATJ-ADJ; Package: 000; Supplier 1: Digi-Key; RoHS: RoHS Compliant; Category: Integrated Circuits (ICs); Stock 1: 1035; Pricing 1: 1=2.19, 10=1.965, 100=1.5796, 500=1.2978 (USD); Packaging: Cut Tape (CT); Part Status: Active; Current - Output: 3A; Current - Limit (Min): -; Operating Temperature: -40°C ~ 125°C; Mounting Type: Surface Mount; Package / Case: TO-263-5 Thin; Supplier Device Package: TO-263-5 Thin; ComponentLink1URL: http://www.ti.com/lit/ds/symlink/lp38501-adj.pdf; ComponentLink1Description: http://www.ti.com/lit/ds/symlink/lp38501-adj.pdf; Supplier Part Number 1: LP38501ATJ-ADJ/NOPBCT-ND
footprint MC_S6/SM/TO263_THIN
pins: 1 En (in), 2 Vin (power), 3 Gnd (power), 4 Vout (power), 5 Adj (in), 6 Dap (power)

## LT1634_2.5V
designator U?, comment LT1634ACS8-2.5
IC VREF SHUNT 2.5V 8SOIC; Manufacturer: Linear Technology; Manufacturer Part Number: LT1634ACS8-2.5#PBF; COMPSIDE: TOP; COMPGROUP: 0; COMPROT: 270; mfgr: Linear Tech; mfgr_foot: SOIC8; Output Type: Fixed; Current - Output: 50mA; Tolerance: ±0.05%; Temperature Coefficient: 10ppm/°C; Noise - 0.1Hz to 10Hz: 15µVp-p; Current - Cathode: 8µA; mfgr_id: LT1634ACS8-2.5; Supplier 1: Digi-Key; RoHS: RoHS Compliant; Category: Integrated Circuits (ICs); Stock 1: 1010; Pricing 1: 1=9.42, 25=6.256, 100=4.7109 (USD); Packaging: Tube; Part Status: Active; Reference Type: Shunt; Voltage - Output (Min/Fixed): 2.5V; Voltage - Output (Max): -; Noise - 10Hz to 10kHz: -; Voltage - Input: -; Current - Supply: -; Operating Temperature: 0°C ~ 70°C (TA); Mounting Type: Surface Mount; Package / Case: 8-SOIC (0.154", 3.90mm Width); Supplier Device Package: 8-SOIC; ComponentLink1URL: http://www.linear.com/docs/3209; ComponentLink1Description: http://www.linear.com/docs/3209; Supplier Part Number 1: LT1634ACS8-2.5#PBF-ND
footprint MC_S6/SM/LT1634_SOIC8
pins: 4 GND (power), 5 TEST, 6 Vout

## LTST-C193KGKT-5A
designator D?
LED GREEN CLEAR 0603 SMD; Manufacturer: Lite-On Inc.; Lens Color: Colorless; Millicandela Rating: 16.25mcd; Lens Style/Size: Rectangle with Flat Top, 1.15mm x 0.80mm; Voltage - Forward (Vf) (Typ): 2V; Current - Test: 5mA; Viewing Angle: 130°; Wavelength - Dominant: 572nm; Wavelength - Peak: 574nm; Supplier 1: Digi-Key; Manufacturer Part Number: LTST-C193KGKT-5A; RoHS: RoHS Compliant; Category: Optoelectronics; Stock 1: 83440; Pricing 1: 1=0.41, 10=0.296, 25=0.2268, 100=0.148, 250=0.10852, 500=0.0921, 1000=0.07565, 2500=0.06578 (USD); Packaging: Cut Tape (CT); Part Status: Active; Color: Green; Lens Transparency: Clear; Mounting Type: Surface Mount; Features: -; Package / Case: 0603 (1608 Metric); Supplier Device Package: Chip LED; Size / Dimension: 1.60mm L x 0.80mm W; Height (Max): 0.45mm; ComponentLink1URL: http://optoelectronics.liteon.com/upload/download/DS22-2007-0094/LTST-C193KGKT-5A.PDF; ComponentLink1Description: http://optoelectronics.liteon.com/upload/download/DS22-2007-0094/LTST-C193KGKT-5A.PDF; Supplier 2: Digi-Key; Stock 2: 83440; Pricing 2: 1=0.41, 10=0.296, 25=0.2268, 100=0.148, 250=0.10852, 500=0.0921, 1000=0.07565, 2500=0.06578 (USD); Supplier Part Number 1: 160-1828-1-ND; Supplier Part Number 2: 160-1828-6-ND
footprint MC_S6/SM/LED_0603
pins: A ANODE, K CATHODE

## LTST-C193KRKT-5A
designator D?
LED RED CLEAR 0603 SMD; Manufacturer: Lite-On Inc.; Lens Color: Colorless; Millicandela Rating: 26.05mcd; Lens Style/Size: Rectangle with Flat Top, 1.15mm x 0.80mm; Voltage - Forward (Vf) (Typ): 2V; Current - Test: 5mA; Viewing Angle: 130°; Wavelength - Dominant: 631nm; Wavelength - Peak: 639nm; Supplier 1: Digi-Key; Manufacturer Part Number: LTST-C193KRKT-5A; RoHS: RoHS Compliant; Category: Optoelectronics; Stock 1: 97257; Pricing 1: 1=0.41, 10=0.296, 25=0.2268, 100=0.148, 250=0.10852, 500=0.0921, 1000=0.07565, 2500=0.06578 (USD); Packaging: Cut Tape (CT); Part Status: Active; Color: Red; Lens Transparency: Clear; Mounting Type: Surface Mount; Features: -; Package / Case: 0603 (1608 Metric); Supplier Device Package: Chip LED; Size / Dimension: 1.60mm L x 0.80mm W; Height (Max): 0.45mm; ComponentLink1URL: http://optoelectronics.liteon.com/upload/download/DS22-2005-077/LTST-C193KRKT-5A.PDF; ComponentLink1Description: http://optoelectronics.liteon.com/upload/download/DS22-2005-077/LTST-C193KRKT-5A.PDF; Supplier 2: Digi-Key; Stock 2: 97257; Pricing 2: 1=0.41, 10=0.296, 25=0.2268, 100=0.148, 250=0.10852, 500=0.0921, 1000=0.07565, 2500=0.06578 (USD); Supplier Part Number 1: 160-1830-1-ND; Supplier Part Number 2: 160-1830-6-ND
footprint MC_S6/SM/LED_0603
pins: A ANODE, K CATHODE

## LTST-C193TBKT-5A
designator D?  Voltage - Forward (Vf) (Typ): 2.8V  Current - Test: 5mA
LED BLUE CLEAR 0603 SMD; Manufacturer: Lite-On Inc.; Lens Color: Colorless; Millicandela Rating: 15mcd; Lens Style/Size: Rectangle with Flat Top, 1.15mm x 0.80mm; Viewing Angle: 130°; Wavelength - Dominant: 470nm; Wavelength - Peak: 468nm; Supplier 1: Digi-Key; Manufacturer Part Number: LTST-C193TBKT-5A; RoHS: RoHS Compliant; Category: Optoelectronics; Stock 1: 380419; Pricing 1: 1=0.47, 10=0.336, 25=0.2572, 100=0.1678, 250=0.12304, 500=0.10442, 1000=0.08577 (USD); Packaging: Cut Tape (CT); Part Status: Active; Color: Blue; Lens Transparency: Clear; Mounting Type: Surface Mount; Features: -; Package / Case: 0603 (1608 Metric); Size / Dimension: 1.60mm L x 0.80mm W; Height (Max): 0.35mm; ComponentLink1URL: http://optoelectronics.liteon.com/upload/download/DS22-2004-060/P_100_LTST-C193TBKT-5A.pdf; ComponentLink1Description: http://optoelectronics.liteon.com/upload/download/DS22-2004-060/P_100_LTST-C193TBKT-5A.pdf; Supplier 2: Digi-Key; Stock 2: 380419; Pricing 2: 1=0.47, 10=0.336, 25=0.2572, 100=0.1678, 250=0.12304, 500=0.10442, 1000=0.08577 (USD); Supplier Part Number 1: 160-1827-1-ND; Supplier Part Number 2: 160-1827-6-ND; Supplier Device Package: Chip LED; ComponentLink2URL: http://media.digikey.com/pdf/Data%20Sheets/Lite-On%20PDFs/LTST-C193TBKT-5A.pdf; ComponentLink2Description: http://media.digikey.com/pdf/Data%20Sheets/Lite-On%20PDFs/LTST-C193TBKT-5A.pdf
footprint MC_S6/SM/LED_0603
pins: A ANODE, K CATHODE

## MezScrew
designator H?  (no BOM)
COMPSIDE: TOP; COMPGROUP: 0; mfgr_id: 92949A146; mfgr: McMaster; mfgr_foot: 6-32 ButtonSkt; COMPROT: 0
footprint MC_S6/TH/SCREW_BASE
pins: 1 GND (power)

## MezScrewHS
designator H?  (no BOM)
mfgr: McMaster; mfgr_id: 92949A146; COMPROT: 0; COMPSIDE: TOP; mfgr_foot: 6-32 ButtonSkt; COMPGROUP: 0
footprint MC_S6/TH/SCREW_PLATE
pins: 1 GND (power)

## MIC49500WR
designator U?
IC REG LDO ADJ 5A SPAK-7; Manufacturer: Microchip Technology; Manufacturer Part Number: MIC49500WR-TR; COMPSIDE: TOP; COMPGROUP: 0; mfgr: Micrel; mfgr_foot: S-PAK-7; Regulator Topology: Positive Adjustable; Voltage - Output: 0.7 V ~ 6 V; Voltage - Dropout (Typical): 0.29V @ 5A; Voltage - Input: 1.4 V ~ 6 V; Current - Limit (Min): 5.5A; COMPROT: 0; mfgr_id: MIC49500WR; Package: 000; Supplier 1: Digi-Key; RoHS: RoHS Compliant; Category: Integrated Circuits (ICs); Stock 1: 304; Pricing 1: 1=7.76, 25=6.458, 100=5.8813 (USD); Packaging: Cut Tape (CT); Part Status: Active; Current - Output: 5A; Operating Temperature: -40°C ~ 125°C; Mounting Type: Surface Mount; Package / Case: SPak-7 (7 leads + Tab); Supplier Device Package: S-PAK-7; ComponentLink1URL: http://www.microchip.com/mymicrochip/filehandler.aspx?ddocname=en579403; ComponentLink1Description: http://www.microchip.com/mymicrochip/filehandler.aspx?ddocname=en579403; Supplier 2: Digi-Key; Stock 2: 304; Pricing 2: 1=7.76, 25=6.458, 100=5.8813 (USD); Supplier Part Number 1: 576-1466-1-ND; Supplier Part Number 2: 576-1466-6-ND
footprint MC_S6/SM/SPAK7
pins: 1 En (in), 2 Vbias (power), 3 Vin (power), 4 Gnd (power), 5 Vout (power), 6 NC (power), 7 Adj (in), 8 Tab (power)

## MIC69502WR
designator U?
IC REG LDO ADJ 5A SPAK-7; Manufacturer: Microchip Technology; Output Configuration: Positive; Output Type: Adjustable; Voltage - Input (Max): 5.5V; Voltage - Output (Min/Fixed): 0.5V; Voltage Dropout (Max): 0.5V @ 5A; Control Features: Enable; Protection Features: Over Current, Over Temperature; Supplier 1: Digi-Key; Manufacturer Part Number: MIC69502WR; RoHS: RoHS Compliant; Category: Integrated Circuits (ICs); Stock 1: 2547; Pricing 1: 1=2.98, 25=2.4884, 100=2.2575 (USD); Packaging: Tube; Part Status: Active; Voltage - Output (Max): 5.5V; Current - Output: 5A; PSRR: -; Operating Temperature: -40°C ~ 125°C; Mounting Type: Surface Mount; Package / Case: SPak-7 (7 leads + Tab); Supplier Device Package: S-PAK-7; ComponentLink1URL: http://www.microchip.com/mymicrochip/filehandler.aspx?ddocname=en580586; ComponentLink1Description: http://www.microchip.com/mymicrochip/filehandler.aspx?ddocname=en580586; Supplier Part Number 1: 576-1613-ND
footprint MC_S6/SM/SPAK7
pins: 1 En (in), 2 Vin (power), 3 Vin (power), 4 Gnd (power), 5 Vout (power), 6 Vout (power), 7 Adj (in), 8 Tab (power)

## MMBT3904
designator Q?
mfgr: Fairchild; mfgr_foot: SOT-23; mfgr_id: MMBT3904
footprint MC_S6/SM/SOT23_BEC
pins: B, C, E

## MOIRE
designator MOIRE?  (value not drawn)
footprint MC_S6/MOIRE

## MOLX-74754-0101
designator J?, comment Molex 074754-0101
CONN CAGE SFP+ 1PORT 3.05MM; Manufacturer: Molex, LLC; Manufacturer Part Number: 0747540101; Supplier 1: Digi-Key; RoHS: RoHS Compliant; Category: Connectors, Interconnects; Stock 1: 1499; Pricing 1: 1=5.58, 10=5.352, 50=4.683, 100=4.46, 250=3.90252, 500=3.791, 1000=3.2335, 2500=3.0105, 5000=2.899 (USD); Packaging: Tray; Part Status: Active; Connector Style: Cage; Connector Type: SFP+; Number of Positions: -; Mounting Type: Through Hole, Right Angle; Termination: Press-Fit; Features: EMI Shielded; Contact Finish: -; Contact Finish Thickness: -; ComponentLink1URL: http://www.molex.com/pdm_docs/sd/747540101_sd.pdf; ComponentLink1Description: http://www.molex.com/pdm_docs/sd/747540101_sd.pdf; Supplier Part Number 1: WM8591-ND
footprint MC_S6/TH/MOLX-74754-0101_V (SFP+ Cage, 1-Port, Body 49x15.9mm)
pins: MH1, MH2, MH3, MH4, MH5, MH6, MH7, MH8, MH9, MH10, MH11, MH12, MH13, MH14, MH15, MH16, MH17, MH18, MH19, MH20

## NET TIE VIA
designator T?, comment Tie  (net tie, no BOM)
footprint MC_S6/TH/TIE_VIA
pins: 1, 2

## PCBM_CERN_VTRX V2.1 (MM)_a
designator PCBM?, comment VTRX-V2.1 (MM)
CERN VTRX V2.1 Multi-Mode (MM); Part Number: PCBM_CERN_VTRX V2.1 (MM)_a; Part Description: Versatile Transceiver Module VTRX V2.1 Multi-Mode Configuration (MM); PressFit: No; Bonding: No; Component Kind: Standard; Component Type: Standard; Device: VTRX-V2.1 (MM); Footprint: PCBM_CERN_VTRX V2.1 (MM); PackageDescription: Versatile Transceiver Module; Manufacturer: CERN; Pin Count: 0; Mounted: Yes; Socket: No; SMD: No; Sense: No; ComponentHeight: 16.5mm; Author: CERN DEM JLC; HelpURL: \\cern.ch\dfs\Applications\Altium\Datasheets\PCBM_CERN_VTRX V2.1 (MM).pdf; CreateDate: 19/12/2013; LatestRevisionDate: 19/12/2013; Manufacturer Part Number: VTRX-V2.1 (MM)
footprint PCBM_CERN_VTRX V2.1 (MM)
text: TOSA; LDD; I2C; ROSA; TIA/LA

## RC1005J000CS
designator R?, comment 0.0R  Supplier Device Package: 0402
RES SMD 0.0OHM JUMPER 1/16W 0402; Manufacturer: Samsung Electro-Mechanics America, Inc.; Manufacturer Part Number: RC1005J000CS; Resistance (Ohms): 0.0; Power (Watts): 0.063W, 1/16W; Supplier 1: Digi-Key; RoHS: RoHS Compliant; Category: Resistors; Stock 1: 3176408; Pricing 1: 1=0.1, 10=0.01, 25=0.0076, 50=0.0056, 100=0.0042, 250=0.0032, 500=0.00256, 1000=0.00188, 5000=0.00135 (USD); Packaging: Cut Tape (CT); Part Status: Active; Tolerance: Jumper; Composition: Thick Film; Features: Moisture Resistant; Temperature Coefficient: -; Operating Temperature: -55°C ~ 155°C; Package / Case: 0402 (1005 Metric); Size / Dimension: 0.039" L x 0.020" W (1.00mm x 0.50mm); Height - Seated (Max): 0.016" (0.40mm); Failure Rate: -; ComponentLink1URL: http://www.samsungsem.com/kr/support/library/product-catalog/chip_resistor.jsp; ComponentLink1Description: http://www.samsungsem.com/kr/support/library/product-catalog/chip_resistor.jsp; Supplier 2: Digi-Key; Stock 2: 3176408; Pricing 2: 1=0.1, 10=0.01, 25=0.0076, 50=0.0056, 100=0.0042, 250=0.0032, 500=0.00256, 1000=0.00188, 5000=0.00135 (USD); Supplier Part Number 1: 1276-3480-1-ND; Supplier Part Number 2: 1276-3480-6-ND
footprint MC_S6/SM/R_0402_IPC
pins: 1, 2

## RES999G
designator R?, comment 999G  Supplier Device Package: 0603  (no BOM)
RES SMD 999G OHM 5% 1/10W 0603; Manufacturer Part Number: Do Not Place
footprint MC_S6/SM/R_0603_IPC
pins: 1, 2

## RES999G 0402
designator R?, comment 999G  Supplier Device Package: 0402  (no BOM)
RES SMD 999G OHM 5% 1/16W 0402; Manufacturer Part Number: Do Not Place
footprint MC_S6/SM/R_0402_IPC
pins: 1, 2

## RES999G 0603
designator R?, comment 999G  Supplier Device Package: 0603  (no BOM)
RES SMD 999G OHM 5% 1/10W 0603; Manufacturer Part Number: Do Not Place
footprint MC_S6/SM/R_0603_IPC
pins: 1, 2

## Resistor
designator R?, comment 10K
mfgr_id: ERJ-6ENF1002V; tolerance: 1%; mfgr: Panasonic; mfgr_foot: SMT0805; COMPROT: 0; COMPSIDE: TOP; COMPGROUP: 0
footprint GAPS/SM/R_0805
pins: 1, 2

## RESISTOR VAR_0
designator R?
pins: 1 A, 2 WIPER, 3 B

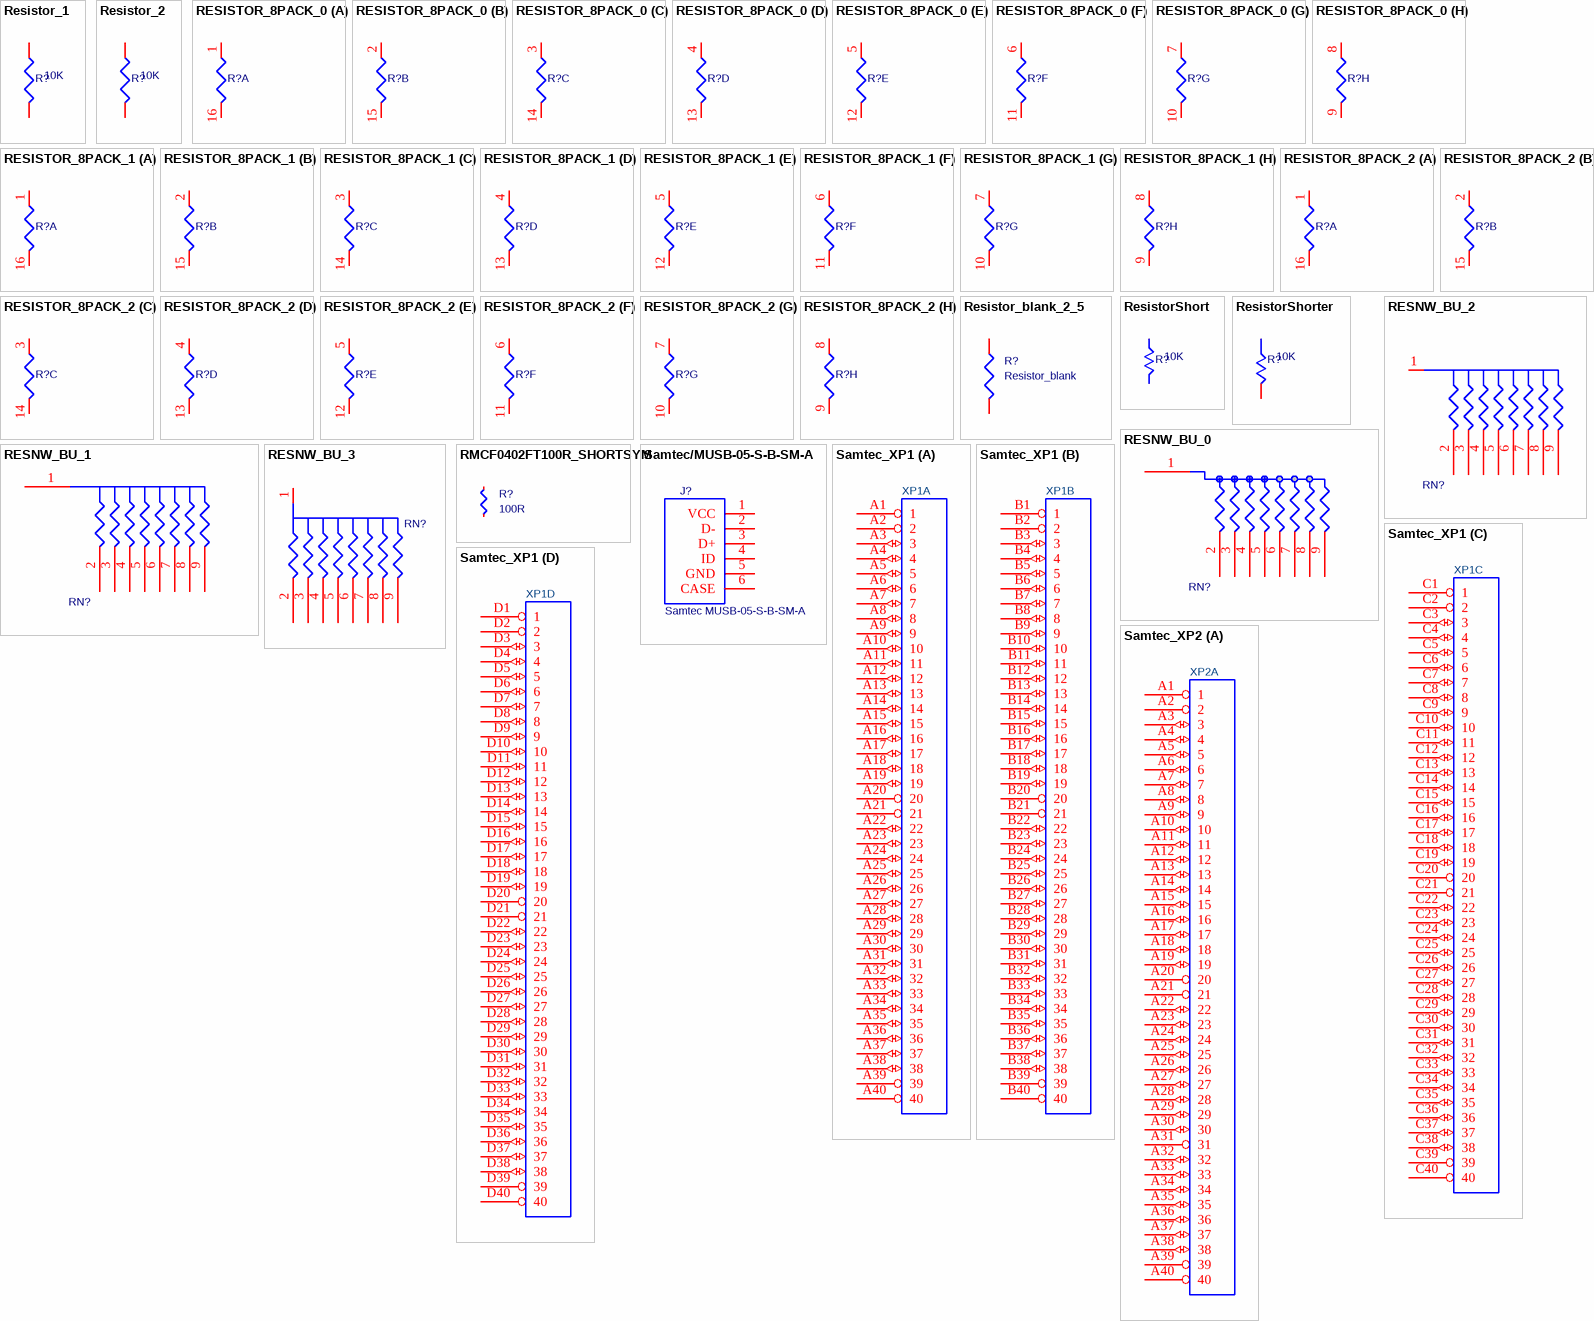
[diagram p5: symbols Resistor_1 to Samtec_XP2]

## Resistor_1
designator R?, comment 10K
mfgr_id: ERJ-6ENF1002V; tolerance: 1%; mfgr: Panasonic; mfgr_foot: SMT0805; COMPROT: 0; COMPSIDE: TOP; COMPGROUP: 0
footprint GAPS/SM/R_0805
pins: 1, 2

## Resistor_2
designator R?, comment 10K
mfgr_id: ERJ-6ENF1002V; tolerance: 1%; mfgr: Panasonic; mfgr_foot: SMT0805; COMPROT: 0; COMPSIDE: TOP; COMPGROUP: 0
footprint GAPS/SM/R_0805
pins: 1, 2

## RESISTOR_8PACK_0
designator R?
part A pins: 1, 16 2
part B pins: 2 1, 15 2
part C pins: 3 1, 14 2
part D pins: 4 1, 13 2
part E pins: 5 1, 12 2
part F pins: 6 1, 11 2
part G pins: 7 1, 10 2
part H pins: 8 1, 9 2

## RESISTOR_8PACK_1
designator R?
part A pins: 1, 16 2
part B pins: 2 1, 15 2
part C pins: 3 1, 14 2
part D pins: 4 1, 13 2
part E pins: 5 1, 12 2
part F pins: 6 1, 11 2
part G pins: 7 1, 10 2
part H pins: 8 1, 9 2